# Altium schematic symbol library SamacSys.SchLib: 7 symbols
Pins are listed as number, name and electrical type; pins without a type are passive.

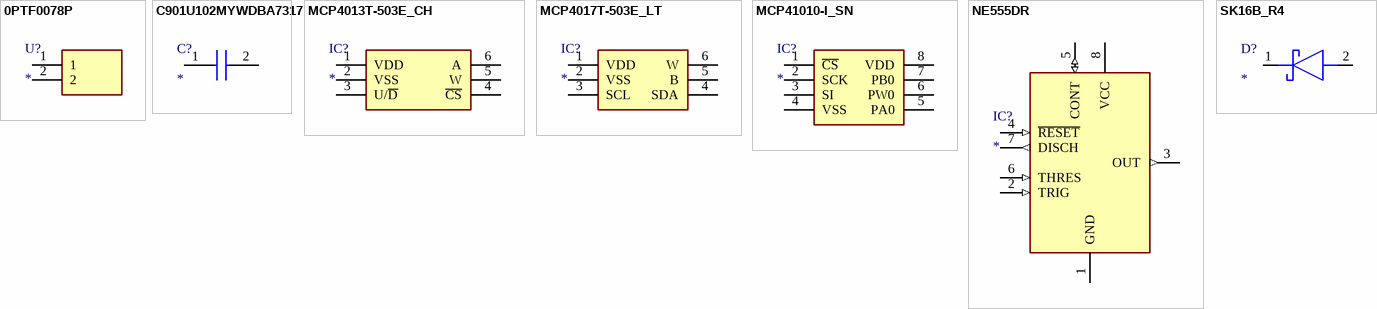
[diagram p0: symbols 0PTF0078P to SK16B_R4]

## 0PTF0078P
designator U?
Undefined or Miscellaneous; Manufacturer_Name: LITTELFUSE; Manufacturer_Part_Number: 0PTF0078P; Datasheet Link: https://media.digikey.com/pdf/Data%20Sheets/Littelfuse%20PDFs/PTF075_77_78.pdf; Height: 11.5mm; Mouser Part Number: 576-0PTF0078P; Mouser Price/Stock: https://www.mouser.co.uk/ProductDetail/Littelfuse/0PTF0078P?qs=Co4VkB5J4%2Fsczy6gG8s%2FsA%3D%3D; Arrow Part Number: 0PTF0078P; Arrow Price/Stock: https://www.arrow.com/en/products/0ptf0078p/littelfuse?region=nac
footprint 0PTF0078P
pins: 1, 2

## C901U102MYWDBA7317
designator C?
Capacitor; Manufacturer_Name: Kemet; Manufacturer_Part_Number: C901U102MYWDBA7317; Datasheet Link: https://componentsearchengine.com/Datasheets/2/C901U102MYWDBA7317.pdf; Height: 10mm; Mouser Part Number: 80-C901U102MYWDBAP; Mouser Price/Stock: https://www.mouser.co.uk/ProductDetail/KEMET/C901U102MYWDBA7317?qs=gqcQgTT0fkjoP%252BsjEfHKjQ%3D%3D
footprint C901U102MYWDBA7317
pins: 1, 2

## MCP4013T-503E_CH
designator IC?
Integrated Circuit; Manufacturer_Name: Microchip; Description: MCP4013T-503E/CH; Datasheet Link: https://componentsearchengine.com/Datasheets/2/MCP4013T-503E_CH.pdf; Height: 1.45mm; Manufacturer_Part_Number: MCP4013T-503E/CH; Mouser Part Number: 579-MCP4013T-503E/CH; Mouser Price/Stock: https://www.mouser.co.uk/ProductDetail/Microchip-Technology/MCP4013T-503E-CH/?qs=usxtMOJb1Rw%252Bngb68X6Q6A%3D%3D; Arrow Part Number: MCP4013T-503E/CH; Arrow Price/Stock: https://www.arrow.com/en/products/mcp4013t-503ech/microchip-technology
footprint SOT95P280X145-6N
pins: 1 VDD, 2 VSS, 3 U/~{D}, 4 ~{CS}, 5 W, 6 A

## MCP4017T-503E_LT
designator IC?
Integrated Circuit; Manufacturer_Name: Microchip; Manufacturer_Part_Number: MCP4017T-503E/LT; Datasheet Link: http://componentsearchengine.com/Datasheets/3/MCP4017T-503E_LT.pdf; Height: 1.1mm; Mouser Part Number: 579-MCP4017T503E/LT; Mouser Price/Stock: https://www.mouser.co.uk/ProductDetail/Microchip-Technology/MCP4017T-503E-LT/?qs=%2FsslhGPpiOSqSc5vXzrTQg%3D%3D; Arrow Part Number: MCP4017T-503E/LT; Arrow Price/Stock: https://www.arrow.com/en/products/mcp4017t-503elt/microchip-technology
footprint SOT65P210X110-6N
pins: 1 VDD, 2 VSS, 3 SCL, 4 SDA, 5 B, 6 W

## MCP41010-I_SN
designator IC?
Integrated Circuit; Manufacturer_Name: Microchip; Manufacturer_Part_Number: MCP41010-I/SN; Datasheet Link: http://docs-emea.rs-online.com/webdocs/0806/0900766b8080626b.pdf; Height: 1.75mm; Mouser Part Number: 579-MCP41010-I/SN; Mouser Price/Stock: https://www.mouser.co.uk/ProductDetail/Microchip-Technology/MCP41010-I-SN?qs=R9WqqQqCiv7YUHHL%252B%2FIbvg%3D%3D; Arrow Part Number: MCP41010-I/SN; Arrow Price/Stock: https://www.arrow.com/en/products/mcp41010-isn/microchip-technology
footprint SOIC127P600X175-8N
pins: 1 ~{CS}, 2 SCK, 3 SI, 4 VSS, 5 PA0, 6 PW0, 7 PB0, 8 VDD

## NE555DR
designator IC?
Integrated Circuit; Manufacturer_Name: Texas Instruments; Manufacturer_Part_Number: NE555DR; Datasheet Link: http://www.ti.com/lit/ds/symlink/ne555.pdf; Height: 1.75mm; Mouser Part Number: 595-NE555DR; Mouser Price/Stock: https://www.mouser.com/Search/Refine.aspx?Keyword=595-NE555DR; RS Part Number: 1218414; RS Price/Stock: http://uk.rs-online.com/web/p/products/1218414
footprint SOIC127P600X175-8N
pins: 1 GND (power), 2 TRIG (in), 3 OUT (out), 4 ~{RESET} (in), 5 CONT (io), 6 THRES (in), 7 DISCH (out), 8 VCC (power)

## SK16B_R4
designator D?
Schottky Diode; Manufacturer_Name: Taiwan Semiconductor; Manufacturer_Part_Number: SK16B R4; Datasheet Link: https://docs-emea.rs-online.com/webdocs/0897/0900766b8089796b.pdf; Height: 2.61mm; Mouser Part Number: 821-SK16BR4; Mouser Price/Stock: https://www.mouser.co.uk/ProductDetail/Taiwan-Semiconductor/SK16B-R4?qs=dv9KMQQLqv3ASqrg51Wpkw%3D%3D
footprint DIONM5236X261N
pins: 1 K, 2 A